# EAGLE library part JTAG14PIN (library connectors)
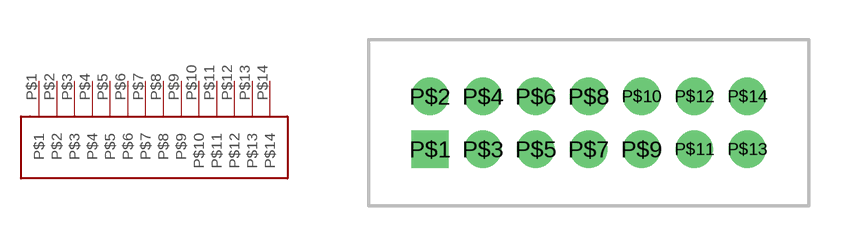
[diagram p0: symbol with the pads of JTAG14PIN; footprint JTAG14PIN]

Designator prefix -

## JTAG14PIN  [JTAG14PIN]
P$1  P$1
P$2  P$2
P$3  P$3
P$4  P$4
P$5  P$5
P$6  P$6
P$7  P$7
P$8  P$8
P$9  P$9
P$10  P$10
P$11  P$11
P$12  P$12
P$13  P$13
P$14  P$14

## Footprint JTAG14PIN (pad centres in mm)
drill 0.9 square: P$1 -5.08,-1.27
drill 0.9: P$2 -5.08,0.73; P$3 -3.08,-1.27; P$4 -3.08,0.73; P$5 -1.08,-1.27; P$6 -1.08,0.73; P$7 0.92,-1.27; P$8 0.92,0.73; P$9 2.92,-1.27; P$10 2.92,0.73; P$11 4.92,-1.27; P$12 4.92,0.73; P$13 6.92,-1.27; P$14 6.92,0.73